# EAGLE library part MAIN-STACK-CONN (library interface (2))
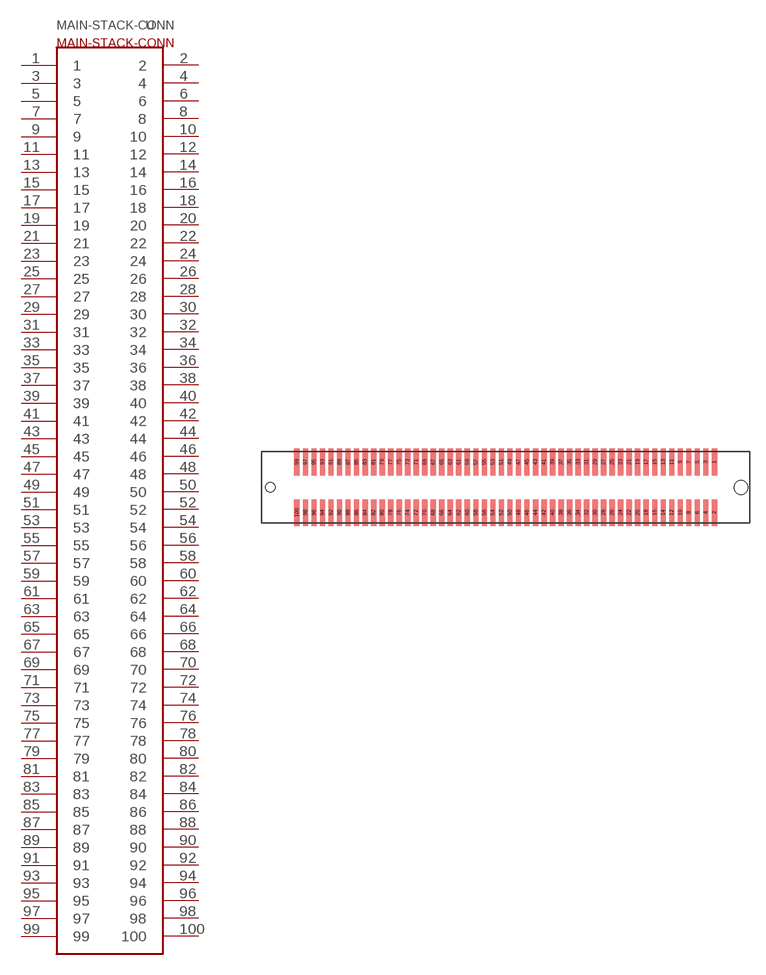
[diagram p0: symbol with the pads of STACK-CONN; footprint STACK-CONN]

Designator prefix -

## MAIN-STACK-CONN  [STACK-CONN]
1  1
2  2
3  3
4  4
5  5
6  6
7  7
8  8
9  9
10  10
11  11
12  12
13  13
14  14
15  15
16  16
17  17
18  18
19  19
20  20
21  21
22  22
23  23
24  24
25  25
26  26
27  27
28  28
29  29
30  30
31  31
32  32
33  33
34  34
35  35
36  36
37  37
38  38
39  39
40  40
41  41
42  42
43  43
44  44
45  45
46  46
47  47
48  48
49  49
50  50
51  51
52  52
53  53
54  54
55  55
56  56
57  57
58  58
59  59
60  60
61  61
62  62
63  63
64  64
65  65
66  66
67  67
68  68
69  69
70  70
71  71
72  72
73  73
74  74
75  75
76  76
77  77
78  78
79  79
80  80
81  81
82  82
83  83
84  84
85  85
86  86
87  87
88  88
89  89
90  90
91  91
92  92
93  93
94  94
95  95
96  96
97  97
98  98
99  99
100  100

## Footprint STACK-CONN (pad centres in mm)
smd 0.5 x 2.5: 1 19.6,2.375; 2 19.6,-2.375; 3 18.8,2.375; 4 18.8,-2.375; 5 18,2.375; 6 18,-2.375; 7 17.2,2.375; 8 17.2,-2.375; 9 16.4,2.375; 10 16.4,-2.375; 11 15.6,2.375; 12 15.6,-2.375; 13 14.8,2.375; 14 14.8,-2.375; 15 14,2.375; 16 14,-2.375; 17 13.2,2.375; 18 13.2,-2.375; 19 12.4,2.375; 20 12.4,-2.375; 21 11.6,2.375; 22 11.6,-2.375; 23 10.8,2.375; 24 10.8,-2.375; 25 10,2.375; 26 10,-2.375; 27 9.2,2.375; 28 9.2,-2.375; 29 8.4,2.375; 30 8.4,-2.375; 31 7.6,2.375; 32 7.6,-2.375; 33 6.8,2.375; 34 6.8,-2.375; 35 6,2.375; 36 6,-2.375; 37 5.2,2.375; 38 5.2,-2.375; 39 4.4,2.375; 40 4.4,-2.375; 41 3.6,2.375; 42 3.6,-2.375; 43 2.8,2.375; 44 2.8,-2.375; 45 2,2.375; 46 2,-2.375; 47 1.2,2.375; 48 1.2,-2.375; 49 0.4,2.375; 50 0.4,-2.375; 51 -0.4,2.375; 52 -0.4,-2.375; 53 -1.2,2.375; 54 -1.2,-2.375; 55 -2,2.375; 56 -2,-2.375; 57 -2.8,2.375; 58 -2.8,-2.375; 59 -3.6,2.375; 60 -3.6,-2.375; 61 -4.4,2.375; 62 -4.4,-2.375; 63 -5.2,2.375; 64 -5.2,-2.375; 65 -6,2.375; 66 -6,-2.375; 67 -6.8,2.375; 68 -6.8,-2.375; 69 -7.6,2.375; 70 -7.6,-2.375; 71 -8.4,2.375; 72 -8.4,-2.375; 73 -9.2,2.375; 74 -9.2,-2.375; 75 -10,2.375; 76 -10,-2.375; 77 -10.8,2.375; 78 -10.8,-2.375; 79 -11.6,2.375; 80 -11.6,-2.375; 81 -12.4,2.375; 82 -12.4,-2.375; 83 -13.2,2.375; 84 -13.2,-2.375; 85 -14,2.375; 86 -14,-2.375; 87 -14.8,2.375; 88 -14.8,-2.375; 89 -15.6,2.375; 90 -15.6,-2.375; 91 -16.4,2.375; 92 -16.4,-2.375; 93 -17.2,2.375; 94 -17.2,-2.375; 95 -18,2.375; 96 -18,-2.375; 97 -18.8,2.375; 98 -18.8,-2.375; 99 -19.6,2.375; 100 -19.6,-2.375
hole 0.9 at -22.1,0
hole 1.3 at 22.1,0